# Altium schematic symbol library Amphenol.SchLib: 1 symbol
Pins are listed as number, name and electrical type; pins without a type are passive.

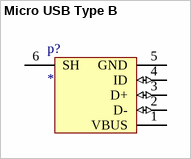
[diagram p0: symbol Micro USB Type B]

## Micro USB Type B
designator p?
SMD
footprint Micro USB Type B
pins: 1 VBUS (power) "Bus Power", 2 D- (io) "Differential Signal Negative", 3 D+ (io) "Differential Signal Positive", 4 ID (io) "Mode Detect", 5 GND (power) "Power Ground", 6 SH (power)